# Altium schematic symbol library QUAD_2IN_AND_V1.SchLib: 1 symbol
Pins are listed as number, name and electrical type; pins without a type are passive.

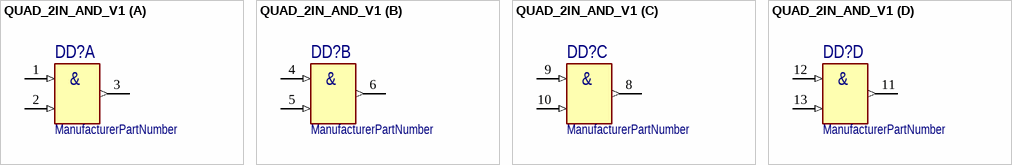
[diagram p0: symbol QUAD_2IN_AND_V1]

## QUAD_2IN_AND_V1
designator DD?
ManufacturerPartNumber: ManufacturerPartNumber
pins on every part: 7 (power) hidden to GND, 14 (power) hidden to GND
part A pins: 1 (in), 2 (in), 3 (out)
part B pins: 4 (in), 5 (in), 6 (out)
part C pins: 8 (out), 9 (in), 10 (in)
part D pins: 11 (out), 12 (in), 13 (in)
part A text: &
part B text: &
part C text: &
part D text: &